# EAGLE library part ZUSATZ_SOOS (library pkess_schuetze-relais)
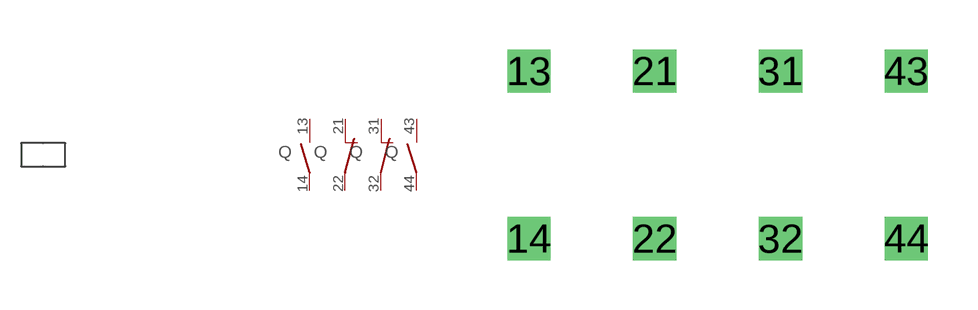
[diagram p0: symbol with the pads of GENERIC_ZUSATZ_SOOS; footprint GENERIC_ZUSATZ_SOOS]

Designator prefix Q; gates SPULE=SPULE_ZUSATZ_DUMMY G$3=KONTAKT_OEFFNER G$2=KONTAKT_OEFFNER G$1=KONTAKT_SCHLIESSER G$4=KONTAKT_SCHLIESSER

## ZUSATZ_SOOSGENERIC  [GENERIC_ZUSATZ_SOOS]
13  G$1:3  pas
14  G$1:4  pas
21  G$2:1  pas
22  G$2:2  pas
31  G$3:1  pas
32  G$3:2  pas
43  G$4:3  pas
44  G$4:4  pas

## Footprint GENERIC_ZUSATZ_SOOS (pad centres in mm)
drill 0.8 square: 13 0,2.54; 14 0,-2.54; 21 3.81,2.54; 22 3.81,-2.54; 31 7.62,2.54; 32 7.62,-2.54; 43 11.43,2.54; 44 11.43,-2.54